# Altium schematic symbol library MyLibrary.SchLib: 320 symbols (part 6 of 7)
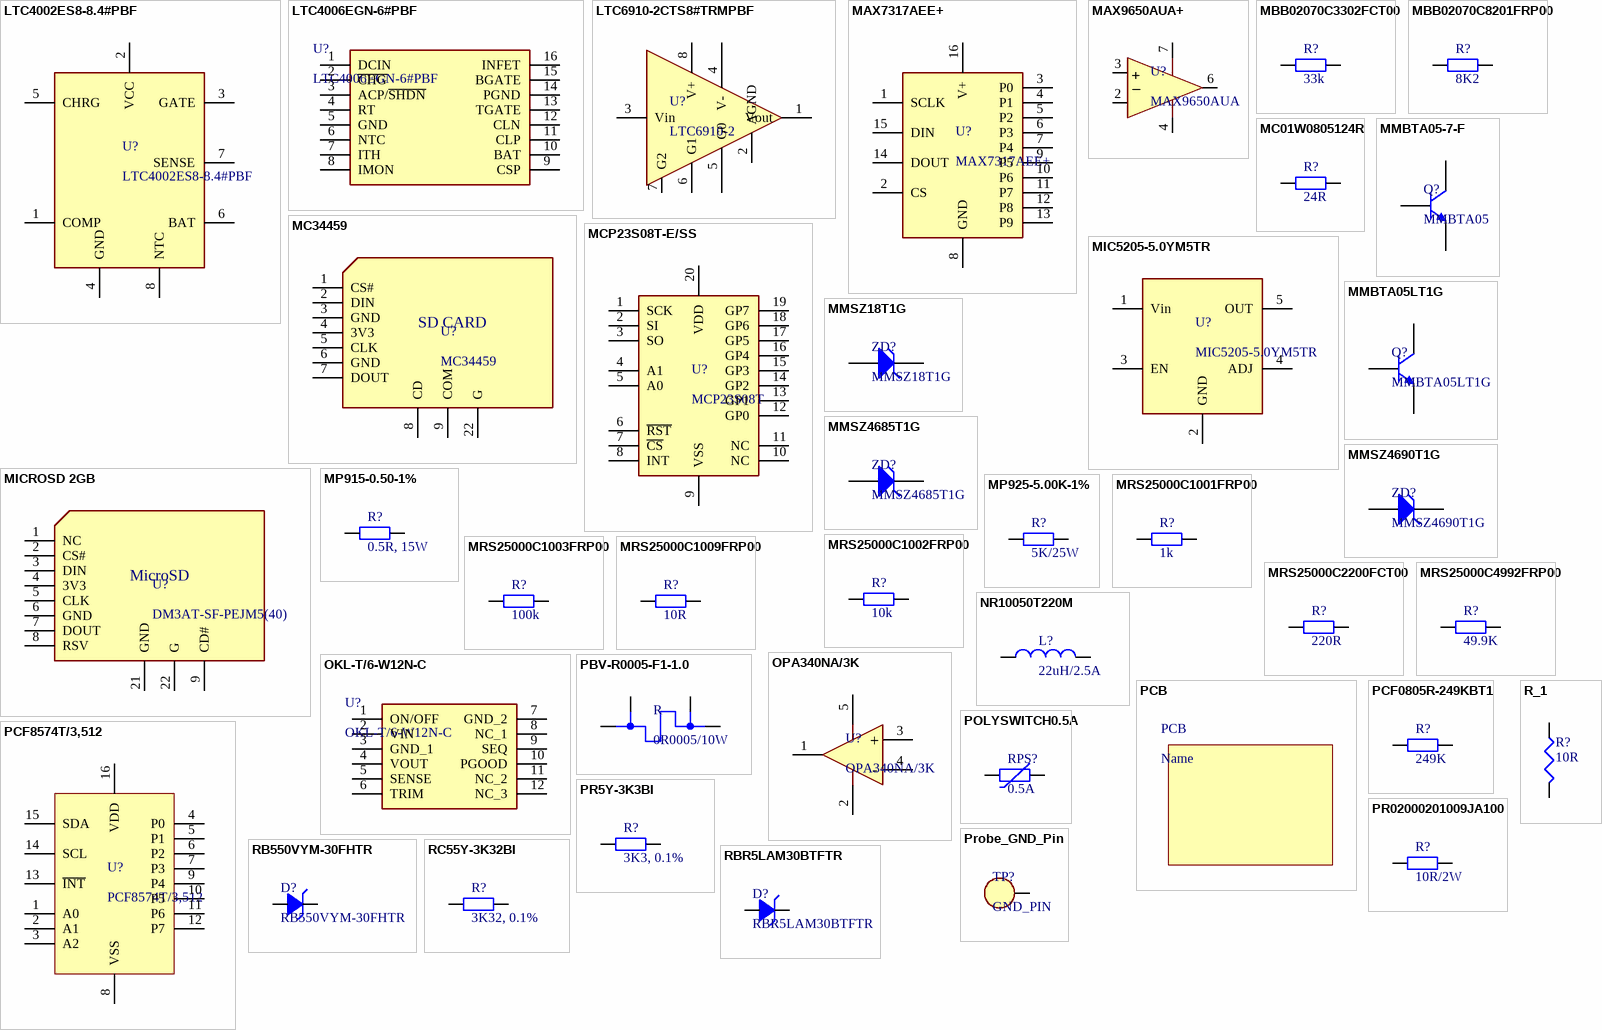
[diagram p13: symbols LTC4002ES8-8.4#PBF to RC55Y-3K32BI]

## MMSZ4685T1G
designator ZD?
ZENER 3.6V 500MW SOD123; Manufacturer: ON Semiconductor; Tolerance: 5%; Max Reverse Leakage Current: 7.5uA; Test Current: 50uA; Element Configuration: Single; Forward Voltage: 900mV; Voltage Tolerance: 3%; Breakdown Voltage: 3.78V; Supplier 1: Future Electronics; Manufacturer Part Number: MMSZ4685T1G; Stock 1: 19723; Pricing 1: 1=0.23, 10=0.192, 100=0.1016, 500=0.0668, 1000=0.0454 (USD); Case/Package: SOD-123-2; Number of Pins: 2; Material: Plastic; Min Operating Temperature: -55°C; Max Operating Temperature: 150°C; Packaging: Tape and Reel; Max Power Dissipation: 500mW; Package Quantity: 1; Zener Voltage: 3.6V; Zener Current: 50uA; Power Dissipation: 500mW; Working Voltage: 3.6V; Peak Reverse Current: 50uA; Termination: SMD/SMT; Voltage Rating (DC): 3.6V; Power Rating: 500mW; Length: 2.84mm; Height: 1.25mm; Width: 1.8mm; Radiation Hardening: No; Lead Free: Lead Free; REACH SVHC: No SVHC; ComponentLink1URL: https://datasheet.ciiva.com/30478/0900766b81276af1-30478634.pdf; ComponentLink1Description: Datasheet; Supplier Part Number 1: MMSZ4685T1G; Type: SMD; Package: SOD3716X135N
footprint SOD123 (SODFL, 2-Leads, Body 1,50x5,20mm, IPC Medium Density)
pins: A, C

## MMSZ4690T1G
designator ZD?
ZENER 5.6V 500MW SOD123; Manufacturer: ON Semiconductor; Tolerance: 5%; Max Reverse Leakage Current: 10uA; Element Configuration: Single; Forward Voltage: 900mV; Forward Current: 10mA; Zener Current: 50uA; Breakdown Voltage: 5.88V; ESD Protection: Yes; Supplier 1: Elfa; Manufacturer Part Number: MMSZ4690T1G; Stock 1: 1803; Pricing 1: 1=0.23, 10=0.192, 100=0.1016, 500=0.0668, 1000=0.0454 (USD); Case/Package: SOD-123-2; Number of Pins: 2; Material: Plastic; Contact Plating: Tin,Matte; Min Operating Temperature: -55°C; Max Operating Temperature: 150°C; Max Power Dissipation: 500mW; Packaging: Tape and Reel; Zener Voltage: 5.6V; Package Quantity: 1; Voltage Tolerance: 5%; Power Dissipation: 500mW; Test Current: 50uA; Working Voltage: 5.6V; Peak Reverse Current: 50uA; Voltage Rating (DC): 5.6V; Power Rating: 500mW; Length: 2.84mm; Height: 1.35mm; Width: 1.8mm; Radiation Hardening: No; Lead Free: Lead Free; REACH SVHC: No SVHC; ComponentLink1URL: https://datasheet.ciiva.com/894/mmsz4678t1-d-894880.pdf; ComponentLink1Description: Datasheet; Supplier Part Number 1: 300-50-434; Type: SMD; Package: SOD3716X135N
footprint SOD123 (SODFL, 2-Leads, Body 1,50x5,20mm, IPC Medium Density)
pins: A, C

## MP915-0.50-1%
designator R?, comment 0.5R, 15W
RES 0.5 OHM 15W 1% TO126; Manufacturer: Caddock; Manufacturer Part Number: MP915-0.50-1%; Resistance: 500mR; Voltage Rating: 200V; Temperature Coefficient: 80ppm/°C; Lead Diameter: 0.64mm; Lead Length: 11.4mm; Supplier 1: RSComponents; Stock 1: 0; Package: TO-126; Min Operating Temperature: -55°C; Max Operating Temperature: 150°C; Packaging: Rail/Tube; Package Quantity: 50; Power Rating: 15W; Tolerance: 1%; Composition: Thick Film; Voltage Rating (DC): 200V; Number of Terminations: 2; Termination: Radial; Max Power Dissipation: 15W; Features: Moisture Resistant; Length: 8.12mm; Height: 0.45inch; Width: 0.11inch; Lead Pitch: 5.08mm; Depth: 2.79mm; Thickness: 0.01inch; REACH SVHC: No SVHC; Lead Free: Lead Free; ComponentLink3URL: http://www.mouser.com/ds/2/62/MP9000_Series-1052.pdf; ComponentLink3Description: Datasheet; Supplier Part Number 1: 320-4700; Type: THT
footprint TO126
pins: 1, 2

## MP925-5.00K-1%
designator R?, comment 5K/25W
RES 5K OHM 25W 1% TO220; Manufacturer: Caddock; Manufacturer Part Number: MP925; Type: THT; Supplier 1: RS Components; Supplier Part Number 1: 377-8289; Operating Temperature: -55°C ~ 155°C; Package: TO-220; Power (Watts): 25W; Resistance (Ohms): 5k; Resistance Tolerance: ± 1%
footprint TO220AB-2
pins: 1, 2

## MRS25000C1001FRP00
designator R?, comment 1k
RES 1K 0.6W 1% AXIAL; Manufacturer: Vishay BC Components; Manufacturer Part Number: MRS25000C1001FRP00; Temperature Coefficient: ±50ppm/°C; Supplier 1: Elfa; RoHS: RoHS Compliant; Category: Resistors; Stock 1: 5232; Pricing 1: 1=0.29, 10=0.242, 25=0.176, 50=0.1276, 100=0.0946, 250=0.0726, 500=0.0572, 1000=0.0396 (USD); Packaging: Cut Tape (CT); Part Status: Active; Resistance (Ohms): 1k; Tolerance: ±1%; Power (Watts): 0.6W; Composition: Metal Film; Features: -; Operating Temperature: -55°C ~ 155°C; Package: Axial; Supplier Device Package: -; Size / Dimension: 0.098" Dia x 0.256" L (2.50mm x 6.50mm); Height - Seated (Max): -; Failure Rate: -; ComponentLink1URL: http://www.vishay.com/docs/28724/mrs16m25.pdf; ComponentLink1Description: Datasheet; Supplier Part Number 1: 60-722-84; Type: THT
footprint RESAD1020W60L680D127B
pins: 1, 2

## MRS25000C1002FRP00
designator R?, comment 10k
RES 10K 0.6W 1% AXIAL; Manufacturer: Vishay BC Components; Manufacturer Part Number: MRS25000C1002FRP00; Temperature Coefficient: ±50ppm/°C; Supplier 1: Elfa; RoHS: RoHS Compliant; Category: Resistors; Stock 1: 16255; Pricing 1: 1=0.29, 10=0.242, 25=0.176, 50=0.1276, 100=0.0946, 250=0.0726, 500=0.0572, 1000=0.0396 (USD); Packaging: Cut Tape (CT); Part Status: Active; Resistance (Ohms): 10k; Tolerance: ±1%; Power (Watts): 0.6W; Composition: Metal Film; Features: -; Operating Temperature: -55°C ~ 155°C; Package: Axial; Supplier Device Package: -; Size / Dimension: 0.098" Dia x 0.256" L (2.50mm x 6.50mm); Height - Seated (Max): -; Failure Rate: -; ComponentLink1URL: http://www.vishay.com/docs/28724/mrs16m25.pdf; ComponentLink1Description: Datasheet; Supplier Part Number 1: 160-73-423; Type: THT
footprint RESAD1020W60L680D127B
pins: 1, 2

## MRS25000C1003FRP00
designator R?, comment 100k
RES 100K AXIAL 0.6W 1%; Manufacturer: Vishay BC Components; Manufacturer Part Number: MRS25000C1003FRP00; Temperature Coefficient: ±50ppm/°C; Supplier 1: Elfa; RoHS: RoHS Compliant; Category: Resistors; Stock 1: 9518; Pricing 1: 1=0.29, 10=0.242, 25=0.176, 50=0.1276, 100=0.0946, 250=0.0726, 500=0.0572, 1000=0.0396 (USD); Packaging: Cut Tape (CT); Part Status: Active; Resistance (Ohms): 100k; Tolerance: ±1%; Power (Watts): 0.6W; Composition: Metal Film; Features: -; Operating Temperature: -55°C ~ 155°C; Package: Axial; Supplier Device Package: -; Size / Dimension: 0.098" Dia x 0.256" L (2.50mm x 6.50mm); Height - Seated (Max): -; Failure Rate: -; ComponentLink1URL: http://www.vishay.com/docs/28724/mrs16m25.pdf; ComponentLink1Description: Datasheet; Supplier Part Number 1: 160-74-561; Type: THT
footprint RESAD1020W60L680D127B
pins: 1, 2

## MRS25000C1009FRP00
designator R?, comment 10R
RES 10R 0.6W 1% AXIAL; Manufacturer: Vishay BC Components; Manufacturer Part Number: MRS25000C1009FRP00; Resistance (Ohms): 10; Temperature Coefficient: ±50ppm/°C; Supplier 1: Elfa; RoHS: RoHS Compliant; Category: Resistors; Stock 1: 12795; Pricing 1: 1=0.29, 10=0.242, 25=0.176, 50=0.1276, 100=0.0946, 250=0.0726, 500=0.0572, 1000=0.0396 (USD); Packaging: Cut Tape (CT); Part Status: Active; Tolerance: ±1%; Power (Watts): 0.6W; Composition: Metal Film; Features: -; Operating Temperature: -55°C ~ 155°C; Package: Axial; Supplier Device Package: -; Size / Dimension: 0.098" Dia x 0.256" L (2.50mm x 6.50mm); Height - Seated (Max): -; Failure Rate: -; ComponentLink1URL: http://www.vishay.com/docs/28724/mrs16m25.pdf; ComponentLink1Description: Datasheet; Supplier Part Number 1: 60-700-07; Type: THT
footprint RESAD1020W60L680D127B
pins: 1, 2

## MRS25000C2200FCT00
designator R?, comment 220R
RES 220R 0.6W 1% AXIAL; Manufacturer: Vishay BC Components; Manufacturer Part Number: MRS25000C2200FCT00; Resistance (Ohms): 220; Temperature Coefficient: ±50ppm/°C; Supplier 1: Elfa; RoHS: RoHS Compliant; Category: Resistors; Stock 1: 0; Pricing 1: 1=0.29, 10=0.242, 25=0.176, 50=0.1276, 100=0.0946, 250=0.0726, 500=0.0572, 1000=0.0396 (USD); Packaging: Cut Tape (CT); Part Status: Active; Tolerance: ±1%; Power (Watts): 0.6W; Composition: Metal Film; Features: -; Operating Temperature: -55°C ~ 155°C; Package: Axial; Supplier Device Package: -; Size / Dimension: 0.098" Dia x 0.256" L (2.50mm x 6.50mm); Height - Seated (Max): -; Failure Rate: -; ComponentLink1URL: http://www.vishay.com/docs/28724/mrs16m25.pdf; ComponentLink1Description: Datasheet; Supplier Part Number 1: 60-715-00; Type: THT
footprint RESAD1020W60L680D127B
pins: 1, 2

## MRS25000C4992FRP00
designator R?, comment 49.9K
RES 49.9K 0.6W 1% AXIAL; Manufacturer: Vishay / BC components; Manufacturer Part Number: MRS25000C4992FRP00; Catalog Drawings: MRS25 Type 1%; EDA / CAD Models: Download from Accelerated Designs; Temperature Coefficient: ±50ppm/°C; Online Catalog: MRS25 Series; Other Names: 2322 156 34993 232215634993 5053MC49K90F12AF5 MRS25F-49.9K MRS25F-49.9K-ND PPC49.9KZTR Q1185954; Stock 1: 8815; Pricing 1: 1=0.29, 10=0.242, 25=0.176, 50=0.1276, 100=0.0946, 250=0.0726, 500=0.0572, 1000=0.0396 (USD); Standard Package: 5,000; Category: Resistors; Family: Through Hole Resistors; Series: MRS25; Packaging: Tape & Reel (TR); Resistance (Ohms): 49.9k; Tolerance: ±1%; Power (Watts): 0.6W; Composition: Metal Film; Features: -; Operating Temperature: -55°C ~ 155°C; Package: Axial; Supplier Device Package: Axial; Size / Dimension: 0.098" Dia x 0.256" L (2.50mm x 6.50mm); Height: -; Number of Terminations: 2; ComponentLink1URL: https://datasheet.ciiva.com/2710/mrs16m25-2710953.pdf; ComponentLink1Description: Datasheet; Supplier 1: Elfa; Supplier Part Number 1: 60-742-15; Type: THT
footprint RESAD1020W60L680D127B
pins: 1, 2

## NR10050T220M
designator L?, comment 22uH/2.5A
IND 22UH 2.5A 58.5 MOHM; Manufacturer: Taiyo Yuden; Manufacturer Part Number: NR10050T220M; Core Material: Ferrite; Self Resonant Frequency: 10MHz; Shielding: Shielded; Tolerance: 20%; Saturation Current: 2.6A; DC Resistance (DCR): 58.5mR; Test Frequency: 100kHz; Type: SMD; Supplier 1: Mouser; RoHS: Yes; Stock 1: 2293; Pricing 1: 1 = 0.89000, 10 = 0.67700, 50 = 0.67700, 100 = 0.57900, 1000 = 0.37400, 10000 = 0.33000 (USD); Mount: Surface Mount; Case/Package: Nonstandard; Number of Pins: 2; Min Operating Temperature: -25°C; Max Operating Temperature: 105°C; Packaging: Tape and Reel; Current Rating: 2.5A; Inductance: 22uH; Inductance Tolerance: 20%; Package Quantity: 500; Max DC Current: 2.6A; Termination: SMD/SMT; Composition: Wirewound; RMS Current (Irms): 2.5A; Length: 0.394inch; Height: 5mm; Width: 9.8mm; Height - Seated (Max): 0.197inch; Depth: 10.3mm; Radiation Hardening: No; Lead Free: Lead Free; Halogen Free: Halogen Free; REACH SVHC: Unknown; ComponentLink1URL: https://datasheet.ciiva.com/8500/nr10050t220m-ss-8500388.pdf?src-supplier=Avnet; ComponentLink1Description: Datasheet; Supplier Part Number 1: 963-NR10050T220M; Package: INDP100100X50N
footprint IND_NR10050
pins: 1, 2

## OKL-T/6-W12N-C
designator U?
DC/DC CONVERTER 0.591-5.5V 30W; Manufacturer: Murata; Nominal Output Voltage: 5.5V; Max Output Current: 6A; Min Input Voltage: 4.5V; Max Input Voltage: 14V; Number of Outputs: 1; Nominal Input Voltage: 12V; Efficiency: 93%; Isolation: Non-Isolated; Min Output Voltage: 591mV; Supplier 1: Mouser; Manufacturer Part Number: OKL-T/6-W12N-C; RoHS: Yes; Stock 1: 785; Pricing 1: 1 = 7.50000, 5 = 7.44000, 10 = 7.38000, 25 = 7.27000, 50 = 7.05000, 100 = 7.05000, 1000 = 7.05000, 10000 = 7.05000 (USD); Mount: Surface Mount; Case/Package: LGA; Number of Pins: 12; Min Operating Temperature: -40°C; Max Operating Temperature: 85°C; Output Current: 6A; Output Voltage: 5.5V; Output Power: 30W; Min Input Voltage (DC): 4.5V; Max Input Voltage (DC): 14V; Packaging: Tape and Reel; Package Quantity: 1; Voltage - Output 1: 5.5V; Current - Output 1: 6A; Max Output Power: 30W; Max Power Dissipation: 30W; Features: UVLO; Power Rating: 30W; Operating Supply Voltage: 12V; Max Output Voltage: 5.5V; Length: 0.48inch; Height: 7.2mm; Width: 12.19mm; Depth: 12.19mm; REACH SVHC: No SVHC; Lead Free: Lead Free; ComponentLink1URL: https://datasheet.ciiva.com/7171/1760834-7171003.pdf?src-supplier=Newark; ComponentLink1Description: Datasheet; Supplier Part Number 1: 580-OKL-T/6-W12N-C; Type: SMD
footprint OKL-T/3-W5
pins: 1 ON/OFF, 2 VIN, 3 GND_1, 4 VOUT, 5 SENSE, 6 TRIM, 7 GND_2, 8 NC_1, 9 SEQ, 10 PGOOD, 11 NC_2, 12 NC_3

## OPA340NA/3K
designator U?
OP AMP GP 5.5MHZ RRIO SOT23-5; Manufacturer: Texas Instruments; Max Supply Voltage: 5.5V; Min Supply Voltage: 2.5V; Voltage Gain: 124dB; Nominal Supply Current: 950uA; Common Mode Rejection Ratio: 80dB; Number of Channels: 1; Slew Rate: 6V/µs; Max I/O Voltage: 500uV; Input Bias Current: 10pA; Power Supply Rejection Ratio (PSRR): 90.46dB; Operating Supply Current: 750uA; Output Current per Channel: 50mA; Supplier 1: Farnell; Manufacturer Part Number: OPA340NA/3K; Stock 1: 1118; Pricing 1: 1=2.25, 25=1.76, 50=1.59, 100=1.42, 250=1.33, 500=1.24, 1000=1.03, 2500=0.921 (EUR); Case/Package: SOT-23; Number of Pins: 5; Min Operating Temperature: -40°C; Max Operating Temperature: 85°C; Package Quantity: 3000; Unity Gain Bandwidth Product: 5.5MHz; Packaging: Tape and Reel; Bandwidth: 5.5MHz; Input Offset Voltage (Vos): 500uV; Gain Bandwidth Product: 5.5MHz; Number of Circuits: 1; Number of Elements: 1; Number of Amplifiers: 1; Radiation Hardening: No; REACH SVHC: No SVHC; Lead Free: Lead Free; ComponentLink1URL: https://datasheet.ciiva.com/27052/1488520-27052284.pdf; ComponentLink1Description: Datasheet; Supplier Part Number 1: 1234805; Type: SMD; Package: STO95P300X130N
footprint SOT23-5 (SOT23, 5-Leads, Body 2.90x2.80mm, Pitch 0.95mm, IPC Medium Density)
pins: 1 Vout, 2 V-, 3 In+, 4 In-, 5 V+
text: +; -

## PBV-R0005-F1-1.0
designator R, comment 0R0005/10W
RES PWR 0.0005R 1%; Manufacturer: Isabellenhütte; Manufacturer Part Number: PBV-R0005-F1-1.0; Test Voltage: 5kV; Temperature Coefficient: 30ppm/°C; Supplier 1: Distrelec; RoHS: Yes; Stock 1: 349; Pricing 1: 1 = 10.41000, 3 = 9.23000, 10 = 8.03000, 25 = 7.27000, 100 = 6.98000 (EUR); Tolerance: 1%; Composition: Power resistor; ComponentLink1URL: https://www.distrelec.biz/Web/Downloads/_t/ds/PBV_ger-eng_tds.pdf?mime=application%2Fpdf&src-supplier=Distrelec; ComponentLink1Description: Datasheet; Supplier Part Number 1: 16057540; Type: THT; Package: PBV
footprint PBV
pins: I1, I2, U1, U2

## PCB
designator PCB, comment Name  (no BOM)
PCB; Category: Materials

## PCF0805R-249KBT1
designator R?, comment 249K
RES 249K 0805 0.1W 0.1%; Manufacturer: TT Welwyn; Manufacturer Part Number: PCF0805R-249KBT1; Resistance: 249kR; Power Rating: 100mW; Voltage Rating: 100V; Temperature Coefficient: 25ppm/°C; Supplier 1: Mouser; RoHS: Yes; Stock 1: 4461; Pricing 1: 1 = 0.35000, 10 = 0.35000, 50 = 0.26600, 100 = 0.16700, 500 = 0.14300, 1000 = 0.10000, 2000 = 0.09300, 5000 = 0.08300, 10000 = 0.08200, 25000 = 0.07700 (USD); Mount: Surface Mount; Case/Package: 0805; Number of Pins: 2; Case Code (Imperial): 0805; Case Code (Metric): 2012; Min Operating Temperature: -55°C; Max Operating Temperature: 125°C; Tolerance: 0.1%; Packaging: Tape and Reel; Package Quantity: 1000; Termination: SMD/SMT; Composition: Metal Film; Number of Terminations: 2; Military Standard: Not; Max Power Dissipation: 100mW; Voltage Rating (DC): 100V; Length: 2mm; Height: 0.026inch; Width: 1.25mm; Depth: 1.25mm; REACH SVHC: No SVHC; ComponentLink1URL: https://datasheet.ciiva.com/26864/getdatasheetpartid-416298-26864201.pdf?src-supplier=Verical; ComponentLink1Description: Datasheet; Supplier Part Number 1: 756-PCF0805R-249KBT1; Type: SMD; Package: RESC2012X60N
footprint R0805
footprint RESC2012X05N (Chip Resistor, 2-Leads, Body 2.05x1.25mm, IPC Medium Density)
pins: 1, 2

## PCF8574T/3,512
designator U?
IC I/O Expander 8bit 100 kHz I2C; Manufacturer: NXP Semiconductors; Min Supply Voltage: 2.5V; Max Supply Voltage: 6V; Nominal Supply Current: 100mA; Number of I/Os: 8; Frequency: 100kHz; Supplier 1: Future Electronics; Manufacturer Part Number: PCF8574T/3,512; Stock 1: 2649; Pricing 1: 1=0.62500, 50=0.58000, 200=0.56500, 500=0.56000, 2000=0.54500 (USD); RoHS: Yes; Mount: Surface Mount; Case/Package: SOIC; Number of Pins: 16; Min Operating Temperature: -40°C; Max Operating Temperature: 85°C; Packaging: Rail/Tube; Interface: I2C; Max Frequency: 100kHz; Length: 10.5mm; Height: 2.45mm; Width: 7.6mm; REACH SVHC: No SVHC; Lead Free: Lead Free; ComponentLink1URL: https://datasheet.ciiva.com/1600/1716973-1600784.pdf?src-supplier=Newark; ComponentLink1Description: Datasheet; Supplier Part Number 1: PCF8574T/3,512-TUBE; Package: SOIC127P1032X265-16N; Type: SMD
footprint SOIC16W (SOIC, 16-Leads, Body 10,30x7,50mm, Pitch 1,27mm, IPC Medium Density)
pins: 1 A0, 2 A1, 3 A2, 4 P0, 5 P1, 6 P2, 7 P3, 8 VSS, 9 P4, 10 P5, 11 P6, 12 P7, 13 ~{INT}, 14 SCL, 15 SDA, 16 VDD

## POLYSWITCH0.5A
designator RPS?, comment 0.5A
POLYSWITCH 0.5A 1812; Manufacturer: BOURNS; Manufacturer Part Number: MF-MSMF050-2; .PCBChecked: BP; Supplier 1: Farnell; RoHS: YES; Stock 1: 28296; Pricing 1: 5=0.219, 50=0.185, 250=0.142, 500=0.118, 1000=0.117, 2000=0.116, 10000=0.115, 20000=0.114 (GBP); ComponentLink1URL: http://www.bourns.com/engineering/MFMSMF/mf-msmf050.stp; ComponentLink1Description: Datasheet; Supplier Part Number 1: 9350314RL; .SCHChecked: BP; Type: SMD; Package: RPSC4532X85N
footprint RPS1812
pins: 1, 2

## PR5Y-3K3BI
designator R?, comment 3K3, 0.1%
RES 3K3 0.5W THT 0.1%; Manufacturer: TT Welwyn; Manufacturer Part Number: PR5Y-3K3BI; Voltage Rating: 350V; Power Rating: 500mW; Resistance: 3.3kR; Temperature Coefficient: 15ppm/°C; Lead Length: 19.6mm; Supplier 1: Farnell; Stock 1: 0; Tolerance: 0.1%; Voltage Rating (DC): 350V; Composition: Metal Film; Length: 9mm; REACH SVHC: No SVHC; ComponentLink1URL: https://datasheet.ciiva.com/7879/66234-7879829.pdf; ComponentLink1Description: Datasheet; Supplier Part Number 1: 1634062; Type: THT; Package: Axial
footprint RESAD1020W60L680D127B
pins: 1, 2

## PR02000201009JA100
designator R?, comment 10R/2W
RES 10R 2W THT 5%; Manufacturer: Vishay; Manufacturer Part Number: PR02000201009JA100; Resistance: 10Ohm; Temperature Coefficient: ±250; Case Style: Conformal; Lead Spacing (nom): Not Requiredmm; Product Length (mm): 12mm; Supplier 1: RSComponents; Stock 1: 2460; Pricing 1: 10=0.136, 250=0.13, 1000=0.09, 2500=0.088, 5000=0.081 (EUR); Type: THT; Power Rating(s): 2W; Tolerance (+ or -): 5%; Package: Axial; Packaging: Ammo; Operating Temp Range: -55C to 155C; Military Standard: Not Required; Failure Rate: Not Required; Product Depth (mm): Not Requiredmm; Product Height (mm): Not Requiredmm; Construction: Cylindrical; ComponentLink1URL: https://datasheet.ciiva.com/11825/0900766b80d9a182-11825394.pdf; ComponentLink1Description: Datasheet; Supplier Part Number 1: 683-5641P
footprint RESAD1502W80L1100D400B
pins: 1, 2

## Probe_GND_Pin
designator TP?, comment GND_PIN
PROBE PIN GND THT SINGLE LADDER
footprint CONN1_LADDER
pins: 1

## R_1
designator R?, comment 10R
THT; Type: THT
pins: 1, 2

## RB550VYM-30FHTR
designator D?
DIODE SCHOTTKY 30V 1A; Manufacturer: Rohm; Forward Voltage: 520mV; Max Forward Surge Current (Ifsm): 3A; Element Configuration: Single; Type: SMD; Supplier 1: Mouser; Manufacturer Part Number: RB550VYM-30FHTR; RoHS: No; Stock 1: 1414; Pricing 1: 1 = 0.41000, 10 = 0.28400, 50 = 0.28400, 100 = 0.13100, 1000 = 0.10000, 3000 = 0.08600, 10000 = 0.08600 (USD); Number of Pins: 2; Max Operating Temperature: 150°C; Max Repetitive Reverse Voltage (Vrrm): 30V; Forward Current: 1A; Packaging: Cut Tape; REACH SVHC: No SVHC; ComponentLink1URL: http://www.farnell.com/datasheets/2067166.pdf?src-supplier=Element14; ComponentLink1Description: Datasheet; Supplier Part Number 1: 755-RB550VYM-30FHTR; Package: DIODE_TUMD2M
footprint TUMD2M
pins: A, C

## RBR5LAM30BTFTR
designator D?
DIODE SCHOTTKY 30V 5A; Manufacturer: Rohm; Forward Surge Current: 100 A; Reverse Current: 150 uA; Brand: ROHM Semiconductor; Type: SMD; Supplier 1: Mouser; Manufacturer Part Number: RBR5LAM30BTFTR; RoHS: No; Stock 1: 12935; Pricing 1: 1 = 0.55000, 10 = 0.45500, 50 = 0.45500, 100 = 0.27800, 1000 = 0.21500, 3000 = 0.18300, 10000 = 0.18300 (USD); Supplier Part Number 1: 755-RBR5LAM30BTFTR; Mounting Style: SMD/SMT; Package/Case: SOD-128-2; Forward Current: 5 A; Repetitive Reverse Voltage: 30 V; Product Type: Schottky Diodes & Rectifiers; Reverse Voltage: 30 V; ComponentLink1Description: Datasheet; ComponentLink1URL: https://eu.mouser.com/datasheet/2/348/rbr5lam30btftr-e-1507947.pdf; Package: SODFL470X105
footprint SOD128 (SODFL, 2-Leads, Body 2.50x4.71mm, IPC Medium Density)
pins: A, C

## RC55Y-3K32BI
designator R?, comment 3K32, 0.1%
RES 3K32 0.25W 0.1% AXIAL; Manufacturer: TT Welwyn; Manufacturer Part Number: RC55Y-3K32BI; Resistance: 3.32kR; Power Rating: 250mW; Voltage Rating: 350V; Temperature Coefficient: 15ppm/°C; Lead Diameter: 0.6mm; Lead Length: 30mm; Supplier 1: Farnell; Stock 1: 408; Pricing 1: 1=1.89, 10=1.24, 50=1.01, 100=0.857, 200=0.754, 500=0.527, 2500=0.505 (EUR); Case/Package: Axial; Number of Pins: 2; Weight: 0.008466oz; Min Operating Temperature: -55°C; Max Operating Temperature: 155°C; Tolerance: 0.1%; Composition: Metal Film; Voltage Rating (DC): 350V; Package Quantity: 1; Packaging: Tape and Reel; Number of Terminations: 2; Termination: Axial; Military Standard: Not; Max Power Dissipation: 250mW; Diameter: 2.5mm; Length: 7.2mm; Height: 0.6mm; REACH SVHC: No SVHC; ComponentLink1URL: https://datasheet.ciiva.com/11825/0900766b80099677-11825053.pdf; ComponentLink1Description: Datasheet; Supplier Part Number 1: 9501924; Package: Axial
footprint RESAD1020W60L680D127B
pins: 1, 2

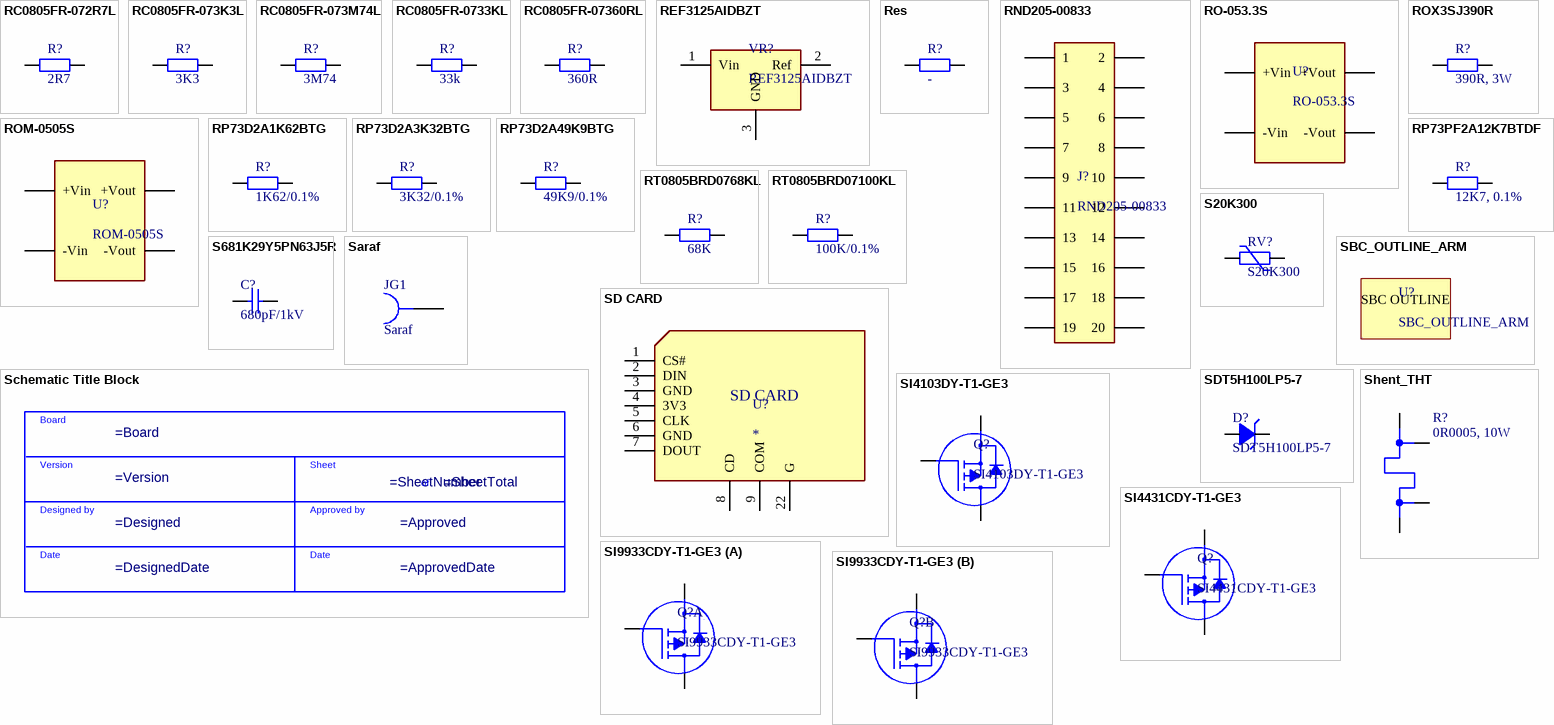
[diagram p7: symbols RC0805FR-072R7L to SI9933CDY-T1-GE3]

## RC0805FR-072R7L
designator R?, comment 2R7
RES 2R7 0805 0.125W; Manufacturer: YAGEO (PHYCOMP); Manufacturer Part Number: RC0805FR-072R7L; Resistance: 2.7; Voltage Rating: 150; Resistor Case Style: 0805 [2012 Metric]; Power Rating: 125; Resistance Tolerance: ± 1%; Product Range: RC Series; Resistor Element Material: Thick Film; Temperature Coefficient: ± 200; SVHC: No SVHC (20-Jun-2016); External Depth: 0.55; External Length / Height: 2; External Width: 1.25; Full Power Rating Temperature: 70; Reel Quantity: 5000; Resistor Mounting: Surface Mount Device; Temperature Coeff. +: 200; Tolerance +: 1%; Voltage Rating V DC: 150V<!--FANDB--><div class="features-and-benefits-container"><div class="features-and-benefits-description"><span class="features-benefits-value">The Yageo RC_L series resistors are general purpose thick film chip resistors with lead free terminations made by thick film process. The resistance range includes E24 and E96 decade values from 1ohm to 100Mohm. These resistors are constructed on top of a high grade ceramic body.</span></div><div class="features-and-benefits-list"><ul class="features-and-benefits-list-list"><li class="features-and-benefits-list-item">EIA 0075, 0100, 0201, 0402, 0603, 0805, 1206, 1210, 1218, 2010, 2512 case sizes available</li><li class="features-and-benefits-list-item">Small chip sizes save PCB space</li><li class="features-and-benefits-list-item">Rated voltage range of 10V to 200V</li><li class="features-and-benefits-list-item">Maximum power rating of 2W</li><li class="features-and-benefits-list-item">Available in ±0.1%, ±0.5%, ±1% and ±5% tolerance</li><li class="features-and-benefits-list-item">High component and equipment reliability</li><li class="features-and-benefits-list-item">Forbidden materials are not used in products/production</li><li class="features-and-benefits-list-item">-55°C to 155°C temperature range for RC0402 to RC2512 and -55°C to 125°C for RC0075 to RC0201; .PCBChecked: BP; Supplier 1: Farnell; RoHS: YES; Stock 1: 15843; Pricing 1: 10=0.0224, 100=0.0135, 500=0.0095, 1000=0.0079, 2500=0.0059 (GBP); Packaging: Cut Tape; Automotive Qualification Standard: -; MSL: MSL 1 - Unlimited; No. of Pins: 2; Operating Temperature Max: 155; Operating Temperature Min: -55; Operating Temperature Range: -55°C to +155; Temperature Coeff. -: 200; Tolerance -: 1%; ComponentLink1URL: http://www.farnell.com/datasheets/444164.pdf; ComponentLink1Description: Datasheet; Supplier Part Number 1: 9237178RL; Category: Resistors; Package: RESC2012X60N; Type: SMD; .SCHChecked: BP
footprint R0805
footprint RESC2012X05N (Chip Resistor, 2-Leads, Body 2.05x1.25mm, IPC Medium Density)
pins: 1, 2

## RC0805FR-073K3L
designator R?, comment 3K3
RES 3K3 0805 0.125W; Manufacturer: Yageo; Manufacturer Part Number: RC0805FR-073K3L; Tolerance: 1%; Resistance: 3.3kR; Temperature Coefficient: 100ppm/°C; Power Rating: 125mW; Voltage Rating: 150V; Supplier 1: Future Electronics; Stock 1: 0; Package: RESC2012X60N; Weight: 0.000194oz; Case Code (Metric): 2012; Case Code (Imperial): 0805; Min Operating Temperature: -55°C; Max Operating Temperature: 155°C; Packaging: Tape and Reel; Composition: Thick Film; Package Quantity: 1; Number of Terminations: 2; Termination: SMD/SMT; Max Power Dissipation: 125mW; Features: Moisture Resistant; Length: 2mm; Height: 0.5mm; Width: 0.049inch; Depth: 1.25mm; REACH SVHC: No SVHC; Lead Free: Lead Free; ComponentLink2URL: http://www.farnell.com/datasheets/444164.pdf; ComponentLink2Description: Datasheet; Supplier Part Number 1: 3186582; Type: SMD
footprint R0805
footprint RESC2012X05N (Chip Resistor, 2-Leads, Body 2.05x1.25mm, IPC Medium Density)
pins: 1, 2

## RC0805FR-073M74L
designator R?, comment 3M74
RES 3M74 0805 0.125W 1%; Manufacturer: Yageo; Manufacturer Part Number: RC0805FR-073M74L; Resistance: 3.74MR; Power Rating: 125mW; Voltage Rating: 150V; Temperature Coefficient: 100ppm/°C; Supplier 1: Mouser; RoHS: Yes; Case/Package: 0805; Case Code (Metric): 2012; Case Code (Imperial): 0805; Contact Plating: Tin; Min Operating Temperature: -55°C; Max Operating Temperature: 155°C; Tolerance: 1%; Package Quantity: 5000; Packaging: Tape and Reel; Composition: Thick Film; Number of Terminations: 2; Termination: SMD/SMT; Max Power Dissipation: 125mW; Voltage Rating (DC): 150V; Length: 0.079inch; Height: 0.024inch; Width: 0.049inch; Radiation Hardening: No; Lead Free: Lead Free; ComponentLink1URL: https://datasheet.ciiva.com/2520/pyu-r-int-thick-7-2520662.pdf?src-supplier=Digi-Key; ComponentLink1Description: Datasheet; Supplier Part Number 1: 603-RC0805FR-073M74L; Type: SMD; Package: RESC2012X60N
footprint R0805
footprint RESC2012X05N (Chip Resistor, 2-Leads, Body 2.05x1.25mm, IPC Medium Density)
pins: 1, 2

## RC0805FR-0733KL
designator R?, comment 33k
RES 33K 0805 0.125W; Manufacturer: Yageo; Manufacturer Part Number: RC0805FR-0733KL; Resistance: 33kR; Tolerance: 1%; Temperature Coefficient: 100ppm/°C; Power Rating: 125mW; Voltage Rating: 150V; Reverse Standoff Voltage: 15.3V; Min Breakdown Voltage: 17.1V; Clamping Voltage: 32.5V; Peak Pulse Current: 308A; Peak Pulse Power: 1.5kW; Polarity: Bidirectional; Test Current: 1mA; Direction: Unidirectional,Bidirectional; Number of Elements: 1; Max Breakdown Voltage: 18.9V; Max Reverse Leakage Current: 1uA; Element Configuration: Single; Power Line Protection: No; Voltage Rating (DC): 18V; Capacitance: 4.3nF; Supplier 1: Future Electronics; Stock 1: 365000; Pricing 1: 5000=0.0049, 10000=0.0045, 30000=0.0037, 75000=0.0028, 195000=0.0023 (USD); Case/Package: 0805; Case Code (Imperial): 0805; Case Code (Metric): 2012; Min Operating Temperature: -55°C; Max Operating Temperature: 155°C; Composition: Thick Film; Packaging: Tape and Reel; Package Quantity: 1; Termination: SMD/SMT; Number of Terminations: 2; Max Power Dissipation: 125mW; Length: 0.079inch; Height: 0.024inch; Width: 0.049inch; Depth: 1.25mm; REACH SVHC: Unknown; Lead Free: Lead Free; ComponentLink1URL: https://datasheet.ciiva.com/11819/0900766b8106beab-11819838.pdf; ComponentLink1Description: Datasheet; Supplier Part Number 1: 1593995; Type: SMD; Mount: Through Hole; Number of Pins: 2; Weight: 0.01lb; Breakdown Voltage: 17.1V; Reverse Breakdown Voltage: 17.1V; Max Surge Current: 1mA; Power Dissipation: 1.5kW; Leakage Current: 1uA; Operating Supply Voltage: 15.3V; Number of Bidirectional Channels: 1; Diameter: 5.3mm; Radiation Hardening: No; Package: RESC2012X60N
footprint R0805
footprint RESC2012X05N (Chip Resistor, 2-Leads, Body 2.05x1.25mm, IPC Medium Density)
pins: 1, 2

## RC0805FR-07360RL
designator R?, comment 360R
RES 360R 0805 0.125W 1%; Manufacturer: Yageo; Manufacturer Part Number: RC0805FR-07360RL; Power Rating: 125mW; Voltage Rating: 150V; Temperature Coefficient: 100ppm/°C; Supplier 1: Avnet; RoHS: Yes; Pricing 1: 5000 = 0.00208, 10000 = 0.00205, 20000 = 0.00200, 30000 = 0.00195, 50000 = 0.00190 (USD); Mount: Surface Mount; Case/Package: 0805; Case Code (Imperial): 0805; Case Code (Metric): 2012; Min Operating Temperature: -55°C; Max Operating Temperature: 155°C; Resistance: 360R; Tolerance: 1%; Packaging: Tape and Reel; Termination: SMD/SMT; Voltage Rating (DC): 150V; Length: 2mm; Height: 0.5mm; Depth: 1.25mm; Lead Free: Lead Free; ComponentLink1URL: https://datasheet.ciiva.com/11808/0900766b8106beab-11808261.pdf?src-supplier=RSComponents; ComponentLink1Description: Datasheet; Type: SMD; Package: RESC2012X60N; Supplier Part Number 1: RC0805FR-07360RL
footprint R0805
footprint RESC2012X05N (Chip Resistor, 2-Leads, Body 2.05x1.25mm, IPC Medium Density)
pins: 1, 2

## REF3125AIDBZT
designator VR?
VREF 2.5V SOT23-123; Manufacturer: Texas Instruments; Output Current: 10mA; Temperature Coefficient: 20ppm/°C; Quiescent Current: 100uA; Min Input Voltage: 2.55V; Max Input Voltage: 5.5V; Tolerance: 0.2%; Operating Supply Current: 135uA; Reference Type: Series,Fixed; Supplier 1: Digi-Key; Manufacturer Part Number: REF3125AIDBZT; Stock 1: 5110; Pricing 1: 1=2.73, 10=2.456, 100=2.0125 (USD); Case/Package: SOT-23; Number of Pins: 3; Weight: 0.050717oz; Min Operating Temperature: -40°C; Max Operating Temperature: 125°C; Packaging: Tape and Reel; Output Voltage: 2.5V; Package Quantity: 1; Min Output Voltage: 2.5V; Max Supply Current: 100uA; Reference Voltage: 2.5V; Max Output Voltage: 2.5V; Max Output Current: 10mA; Termination: SMD/SMT; Length: 2.92mm; Height: 1mm; Width: 1.3mm; Radiation Hardening: No; REACH SVHC: No SVHC; Lead Free: Lead Free; ComponentLink1URL: https://datasheet.ciiva.com/27052/1369168-27052113.pdf; ComponentLink1Description: Datasheet; Supplier Part Number 1: 296-17509-1-ND; Type: SMD; Package: SOT95P245X110-3N
footprint SOT23_123 (SOT23, 3-Leads, Body 2,92x2,51mm, Pitch 0,95mm, IPC Medium Density)
pins: 1 Vin, 2 Ref, 3 GND

## Res
designator R?, comment -
RES GENERAL PURPOSE; .PCBChecked: BP; Category: Resistors; Package: RESC2012X60N; Type: SMD; .SCHChecked: BP
footprint R0805
pins: 1, 2

## RND205-00833
designator J?
CONN2X10 IDC MALE; Manufacturer: RND Connect; Number of Contacts: 20; PCB Pitch: 2.54mm; Current Rating: 3A; ComponentLink1Description: Datasheet; ComponentLink1URL: https://www.elfa.se/Web/Downloads/_t/ds/RND%20205-00827_eng_tds.pdf; Gender: Male; Number of Rows: 2; Type: THT; Orientation: Vertical; Contact Material: Brass; Contact Plating: Gold Flash; Operating Temperature Min: -40C; Operating Temperature Max: 105C; Manufacturer Part Number: RND205-00833; Supplier 1: Elfa; Supplier Part Number 1: 301-12-335
footprint CONN2X10_MOLEX
pins: 1, 2, 3, 4, 5, 6, 7, 8, 9, 10, 11, 12, 13, 14, 15, 16, 17, 18, 19, 20

## RO-053.3S
designator U?
DC/DC 5V 3V3 SIP4 1W; Manufacturer: Recom; Min Input Voltage: 4.5V; Output Voltage: 3.3V; Output Current: 303mA; Number of Outputs: 1; Efficiency: 75%; Max Input Voltage: 5.5V; Isolation Voltage: 1kV; Isolation: Isolated; Supplier 1: Mouser; Manufacturer Part Number: RO-053.3S; Stock 1: 88; Pricing 1: 1=5.38, 10=5.22, 50=4.92, 100=4.76, 1000=4.15, 10000=4.15 (USD); Mount: Through Hole; Case/Package: SIP; Number of Pins: 4; Weight: 1.4g; Min Operating Temperature: -40°C; Max Operating Temperature: 85°C; Output Power: 1W; Max Output Current: 303mA; Packaging: Rail/Tube; Package Quantity: 42; Min Input Voltage (DC): 4.5V; Nominal Output Voltage: 3.3V; Nominal Input Voltage: 5V; Voltage - Output 1: 3.3V; Current - Output 1: 303mA; Max Input Voltage (DC): 5.5V; Max Output Power: 1W; Max Power Dissipation: 1W; Max Output Voltage: 3.3V; Features: SCP; Length: 11.5mm; Height: 10mm; Width: 6mm; Depth: 11.5mm; REACH SVHC: No SVHC; Lead Free: Lead Free; ComponentLink1URL: https://datasheet.ciiva.com/2170/ro-2170311.pdf; ComponentLink1Description: Datasheet; Supplier Part Number 1: 919-RO-053.3S; Type: THT; Package: SIP8
footprint SIP4
pins: +Vin, +Vout, -Vin, -Vout

## ROM-0505S
designator U?
DC/DC 5V 5V SIP4 1W; Manufacturer: Recom; Number of Outputs: 1; Efficiency: 78%; Output Current: 200mA; Min Input Voltage: 4.5V; Max Input Voltage: 5.5V; Isolation Voltage: 3kV; Isolation: Isolated; Supplier 1: RSComponents; Manufacturer Part Number: ROM-0505S; Stock 1: 0; Mount: PCB,Through Hole; Package: SIP4; Number of Pins: 4; Weight: 1g; Min Operating Temperature: -40°C; Max Operating Temperature: 85°C; Package Quantity: 42; Packaging: Rail/Tube; Output Voltage: 5V; Output Power: 1W; Nominal Output Voltage: 5V; Max Output Current: 200mA; Nominal Input Voltage: 5V; Min Input Voltage (DC): 4.5V; Max Input Voltage (DC): 5.5V; Voltage - Output 1: 5V; Current - Output 1: 200mA; Max Output Power: 1W; Max Power Dissipation: 1W; Max Output Voltage: 5V; Features: SCP; Length: 11.5mm; Height: 7.7mm; Width: 6.05mm; Depth: 11.5mm; REACH SVHC: No SVHC; Lead Free: Lead Free; ComponentLink1URL: https://www.recom-power.com/pdf/Econoline/ROM.pdf; ComponentLink1Description: https://www.recom-power.com/pdf/Econoline/ROM.pdf; ComponentLink2URL: http://www.farnell.com/datasheets/526465.pdf; ComponentLink2Description: http://www.farnell.com/datasheets/526465.pdf; ComponentLink3URL: https://www.alliedelec.com/m/d/5a3b2eeea3a261b423c33f62f44805e4.pdf; ComponentLink3Description: https://www.alliedelec.com/m/d/5a3b2eeea3a261b423c33f62f44805e4.pdf; ComponentLink4URL: https://www.distrelec.biz/Web/Downloads/tr/om/jtROM.pdf?mime=application%2Fpdf; ComponentLink4Description: https://www.distrelec.biz/Web/Downloads/tr/om/jtROM.pdf?mime=application%2Fpdf; ComponentLink5URL: http://www.produktinfo.conrad.com/datenblaetter/150000-174999/154777-da-01-en-DC_DC_WANDLER_ROM_0505S.pdf; ComponentLink5Description: http://www.produktinfo.conrad.com/datenblaetter/150000-174999/154777-da-01-en-DC_DC_WANDLER_ROM_0505S.pdf; Supplier Part Number 1: 494-3838P; Type: THT
footprint SIP4
pins: +Vin, +Vout, -Vin, -Vout

## ROX3SJ390R
designator R?, comment 390R, 3W
RES 390R 3W 5% AXIAL; Manufacturer: TE CONNECTIVITY / NEOHM; Manufacturer Part Number: ROX3SJ390R; Resistance: 390; Voltage Rating: 350; Resistor Case Style: Axial Leaded; Power Rating: 3; Product Range: ROX Series; Resistor Element Material: Metal Oxide; Temperature Coefficient: ± 350; SVHC: No SVHC (15-Jun-2015); External Length / Height: 5.5; External Width: 16; Lead Diameter: 0.7; Lead Length: 28; No. of Pins: 2; Overload Voltage: 600; Resistor Mounting: Through Hole<!--FANDB--><div class="features-and-benefits-container"></div>; Supplier 1: RS Components; RoHS: YES; Stock 1: 373; Pricing 1: 1=0.179, 50=0.126, 100=0.114, 250=0.097, 500=0.0932, 1000=0.066, 5000=0.0538, 10000=0.0455 (GBP); Resistance Tolerance: ± 5%; Automotive Qualification Standard: -; Operating Temperature Max: 235; Operating Temperature Min: -55; Operating Temperature Range: -55°C to +235; ComponentLink1URL: http://www.farnell.com/datasheets/1888337.pdf; ComponentLink1Description: Datasheet; Supplier Part Number 1: 214-2702P; Type: THT; Package: Axial
footprint RESAD2032W70L1600D550B
pins: 1, 2

## RP73D2A1K62BTG
designator R?, comment 1K62/0.1%
RES 1K62 0805 0.125W 0.1%; Manufacturer: TE Connectivity Holsworthy; Manufacturer Part Number: RP73D2A1K62BTG; Voltage Rating (DC): 150V; Number of Resistors: 1; Temperature Coefficient: 15ppm/°C; Resistance: 1.62kR; Power Rating: 125mW; Supplier 1: Farnell; Stock 1: 0; Pricing 1: 10=0.83600, 20=0.71700, 60=0.59700, 150=0.46500, 250=0.38000, 1250=0.32200, 2500=0.31500 (GBP); RoHS: Yes; Mount: Surface Mount; Case/Package: 0805; Number of Pins: 2; Case Code (Metric): 2012; Case Code (Imperial): 0805; Min Operating Temperature: -55°C; Max Operating Temperature: 155°C; Packaging: Cut Tape; Tolerance: 0.1%; Termination: Solder; Voltage Rating: 150V; Composition: Thin Film; Number of Terminations: 2; Radiation Hardening: No; REACH SVHC: Unknown; ELV: Compliant; ComponentLink1URL: https://datasheet.ciiva.com/7693/1635325-7693320.pdf?src-supplier=Element14; ComponentLink1Description: Datasheet; Supplier Part Number 1: 1502194RL; Type: SMD; Package: RESC2012X60N
footprint R0805
footprint RESC2012X05N (Chip Resistor, 2-Leads, Body 2.05x1.25mm, IPC Medium Density)
pins: 1, 2

## RP73D2A3K32BTG
designator R?, comment 3K32/0.1%
RES 3K32 0805 0.125W 0.1%; Manufacturer: TE Connectivity Holsworthy; Manufacturer Part Number: RP73D2A3K32BTG; Temperature Coefficient: 15ppm/°C; Resistance: 3.32kR; Power Rating: 125mW; Voltage Rating: 150V; Number of Resistors: 1; Supplier 1: Farnell; Stock 1: 0; Pricing 1: 1=1.23000, 10=0.97700, 25=0.91800, 50=0.85800, 100=0.74500, 250=0.67400, 1250=0.46800 (GBP); RoHS: Yes; Mount: Surface Mount; Case/Package: 0805; Number of Pins: 2; Weight: 0.000194oz; Case Code (Metric): 2012; Case Code (Imperial): 0805; Min Operating Temperature: -55°C; Max Operating Temperature: 155°C; Composition: Thin Film; Tolerance: 0.1%; Package Quantity: 250; Packaging: Cut Tape; Number of Terminations: 2; Termination: Solder; Voltage Rating (DC): 150V; Length: 2mm; Height: 0.55mm; Width: 1.25mm; Radiation Hardening: No; ELV: Compliant; REACH SVHC: No SVHC; ComponentLink1URL: https://datasheet.ciiva.com/7739/1635325-7739999.pdf?src-supplier=Element14; ComponentLink1Description: Datasheet; Supplier Part Number 1: 1502227; Type: SMD; Package: RESC2012X60N
footprint R0805
footprint RESC2012X05N (Chip Resistor, 2-Leads, Body 2.05x1.25mm, IPC Medium Density)
pins: 1, 2

## RP73D2A49K9BTG
designator R?, comment 49K9/0.1%
RES 49K9 0805 0.125W  0.1%; Manufacturer: TE Connectivity Holsworthy; Manufacturer Part Number: RP73D2A49K9BTG; Resistance: 49.9kR; Temperature Coefficient: 15ppm/°C; Power Rating: 125mW; Voltage Rating: 150V; Number of Resistors: 1; Supplier 1: Farnell; Stock 1: 0; Pricing 1: 10=0.77800, 25=0.75100, 50=0.70500, 100=0.64600, 250=0.47000, 1250=0.43000 (GBP); RoHS: Yes; Mount: Surface Mount; Case/Package: 0805; Number of Pins: 2; Weight: 0.000194oz; Case Code (Imperial): 0805; Case Code (Metric): 2012; Min Operating Temperature: -55°C; Max Operating Temperature: 155°C; Tolerance: 0.1%; Composition: Thin Film; Number of Terminations: 2; Package Quantity: 250; Packaging: Cut Tape; Termination: Solder; Voltage Rating (DC): 150V; Length: 2mm; Height: 0.55mm; Width: 1.25mm; Radiation Hardening: No; REACH SVHC: Unknown; ELV: Compliant; ComponentLink1URL: https://datasheet.ciiva.com/7740/436901-7740013.pdf?src-supplier=Element14; ComponentLink1Description: Datasheet; Supplier Part Number 1: 1502352RL; Type: SMD; Package: RESC2012X60N
footprint R0805
footprint RESC2012X05N (Chip Resistor, 2-Leads, Body 2.05x1.25mm, IPC Medium Density)
pins: 1, 2

## RP73PF2A12K7BTDF
designator R?, comment 12K7, 0.1%
RES 12K7 SMD 0805 0.1%; Manufacturer: TE Connectivity; Manufacturer Part Number: RP73PF2A12K7BTDF; Voltage Rating: 150V; Resistance: 12.7kR; Power Rating: 250mW; Temperature Coefficient: 25ppm/°C; Supplier 1: RSComponents; Stock 1: 1000; Pricing 1: 1000=0.146, 2000=0.136, 5000=0.127, 10000=0.116 (EUR); Case/Package: 0805; Case Code (Metric): 2012; Case Code (Imperial): 0805; Min Operating Temperature: -55°C; Max Operating Temperature: 155°C; Packaging: Cut Tape; Tolerance: 0.1%; Composition: Thin Film; Termination: Flat; Voltage Rating (DC): 150V; Length: 2mm; Height: 0.55mm; Depth: 1.25mm; REACH SVHC: No SVHC; ComponentLink1URL: http://www.farnell.com/datasheets/1635325.pdf; ComponentLink1Description: Datasheet; Supplier Part Number 1: 7630106; Type: SMD; Package: RESC2012X60N
footprint R0805
footprint RESC2012X05N (Chip Resistor, 2-Leads, Body 2.05x1.25mm, IPC Medium Density)
pins: 1, 2

## RT0805BRD0768KL
designator R?, comment 68K
RES 68K 0805 0.125W 0.1%; Manufacturer: Yageo; Manufacturer Part Number: RT0805BRD0768KL; Resistance: 68kR; Tolerance: 1%; Power Rating: 125mW; Voltage Rating: 150V; Temperature Coefficient: 25ppm/°C; Supplier 1: Mouser; RoHS: Yes; Stock 1: 6024; Pricing 1: 1 = 0.43000, 10 = 0.22400, 50 = 0.22400, 100 = 0.08300, 1000 = 0.06000, 10000 = 0.04400 (USD); Case/Package: 0805; Weight: 0.000194oz; Case Code (Metric): 2012; Case Code (Imperial): 0805; Contact Plating: Tin; Min Operating Temperature: -55°C; Max Operating Temperature: 125°C; Package Quantity: 5000; Packaging: Tape and Reel; Composition: Thin Film; Number of Terminations: 2; Termination: SMD/SMT; Military Standard: Not; Max Power Dissipation: 125mW; Voltage Rating (DC): 150V; Features: Moisture Resistant; Length: 2mm; Height: 0.024inch; Width: 0.049inch; Depth: 1.25mm; Radiation Hardening: No; Lead Free: Lead Free; ComponentLink1URL: https://datasheet.ciiva.com/46635/pyu-rt-1-to-0-05-rohs-l-5-46635237.pdf?src-supplier=Digi-Key; ComponentLink1Description: Datasheet; Supplier Part Number 1: 603-RT0805BRD0768KL; Type: SMD; Package: RESC2012X60N
footprint R0805
footprint RESC2012X05N (Chip Resistor, 2-Leads, Body 2.05x1.25mm, IPC Medium Density)
pins: 1, 2

## RT0805BRD07100KL
designator R?, comment 100K/0.1%
RES 100K 0805 0.125W 0.1%; Manufacturer: Yageo; Manufacturer Part Number: RT0805BRD07100KL; Resistance: 100kR; Power Rating: 125mW; Voltage Rating: 150V; Temperature Coefficient: 25ppm/°C; Supplier 1: Mouser; RoHS: Yes; Stock 1: 29047; Pricing 1: 1 = 0.40000, 10 = 0.28500, 50 = 0.28500, 100 = 0.11400, 1000 = 0.05200, 5000 = 0.04700, 10000 = 0.04500, 25000 = 0.04400, 50000 = 0.04300 (USD); Case/Package: 0805; Weight: 0.000194oz; Case Code (Metric): 2012; Case Code (Imperial): 0805; Min Operating Temperature: -55°C; Max Operating Temperature: 125°C; Tolerance: 0.1%; Packaging: Tape and Reel; Package Quantity: 5000; Composition: Thin Film; Number of Terminations: 2; Termination: SMD/SMT; Military Standard: Not; Max Power Dissipation: 125mW; Voltage Rating (DC): 150V; Features: Moisture Resistant; Length: 2mm; Height: 0.024inch; Width: 0.049inch; Depth: 1.25mm; Lead Free: Lead Free; ComponentLink1URL: https://datasheet.ciiva.com/5624/pyu-rt-1-to-0-05-rohs-l-4-5624091.pdf?src-supplier=Mouser; ComponentLink1Description: Datasheet; Supplier Part Number 1: 603-RT0805BRD07100KL; Type: SMD; Package: RESC2012X60N
footprint R0805
footprint RESC2012X05N (Chip Resistor, 2-Leads, Body 2.05x1.25mm, IPC Medium Density)
pins: 1, 2

## S20K300
designator RV?
VARISTOR 470V 8KA DISC 20MM; Manufacturer: EPCOS (TDK); Varistor Voltage (Min): 423V; Varistor Voltage (Max): 517V; Energy: 173J; Number of Circuits: 1; Maximum AC Volts: 300VAC; Maximum DC Volts: 385VDC; Capacitance @ Frequency: 780pF @ 1kHz; Supplier 1: Avnet Abacus; Manufacturer Part Number: S20K300; RoHS: RoHS Compliant; Category: Circuit Protection; Stock 1: 0; Pricing 1: 1=0.95, 10=0.827, 25=0.7328, 100=0.6383, 250=0.55556, 500=0.4728, 1000=0.37824, 2500=0.34278, 5000=0.31914 (USD); Packaging: Bulk; Part Status: Active; Varistor Voltage (Typ): 470V; Operating Temperature: -40°C ~ 85°C (TA); Mounting Type: Through Hole; Package: Disc 20mm; ComponentLink1URL: https://en.tdk.eu/inf/70/db/var_11/SIOV_Leaded_StandarD.pdf; ComponentLink1Description: Datasheet; Supplier Part Number 1: B72220S301K101; Type: THT
footprint S20K300
pins: 1, 2

## S681K29Y5PN63J5R
designator C?, comment 680pF/1kV
CAP 680PF 1KV Y5P RADIAL; Manufacturer: Vishay BCcomponents; Manufacturer Part Number: S681K29Y5PN63J5R; Catalog Drawings: JxR, KxR, LxR Side JxR_7.5 x 5; Tolerance: ±10%; Voltage - Rated: 1000V (1kV); Temperature Coefficient: Y5P (B); Online Catalog: S Series; Other Names: 1293PH; Type: THT; Supplier 1: Digi-Key; Stock 1: 21365; Pricing 1: 1=0.25, 10=0.168, 100=0.0851, 500=0.0582, 1000=0.0515, 2500=0.0493, 5000=0.0448 (USD); Standard Package: 1,000; Category: Capacitors; Family: Ceramic Capacitors; Series: S; Packaging: Bulk; Capacitance: 680pF; Mounting Type: Through Hole; Operating Temperature: -30°C ~ 85°C; Applications: General Purpose; Ratings: -; Package: Radial, Disc; Size / Dimension: 0.295" Dia (7.50mm); Height - Seated (Max): 0.453" (11.50mm); Thickness (Max): -; Lead Spacing: 0.197" (5.00mm); Features: -; Lead Style: Formed Leads - Kinked; ComponentLink1URL: https://datasheet.ciiva.com/160/geninfo-cd-rfi-safcaps-160773.pdf; ComponentLink1Description: Datasheet; Supplier Part Number 1: 1293PH-ND
footprint CAP_THT_5.08
pins: 1, 2 20

## Saraf
designator JG1
DRILL 4.5mm x 8mm; Note: Tab is connected to pin 3 (GND).; Published: 24-Aug-2001; LatestRevisionDate: 17-Jul-2002; LatestRevisionNote: Re-released for DXP Platform.; DatasheetVersion: Jan-1993; PackageVersion: Apr-1998; PackageReference: TO220VW; Publisher: Altium Limited; PackageDescription: TO, Thru-Hole, Vertical, Heatsink Mounted; 3 In-Line Leads; Pitch 2.54 mm; Pin sequence 1, 3, 2; ComponentLink1Description: Datasheet; ComponentLink1URL: http://www.st.com/; Type: THT
footprint DRILL4.5X8
pins: 1

## SBC_OUTLINE_ARM
designator U?  (no BOM)
footprint SBC_OUTLINE
text: SBC OUTLINE

## Schematic Title Block
designator STB, comment -  (value not drawn)  (graphical)
Schematic Title Block Template
text: Board; Version; Sheet; of; Designed by; Approved by; Date

## SD CARD
designator U?  (no BOM)
SD CARD 2GB LARGE CASE; .PCBChecked: BP; Category: Connectors; Package: SD METAL COVER SMD; Type: SMD; .SCHChecked: BP
footprint SD CARD
pins: 1 CS# "Chip select", 2 DIN, 3 GND, 4 3V3, 5 CLK, 6 GND, 7 DOUT, 8 CD "Card detect", 9 COM, 10 NC hidden "Pad NC", 11 NC hidden "Pad NC", 21 NC hidden "Pad NC", 22 G "Connected to ground", 23 NC hidden "Pad NC", 24 NC hidden "Pad NC", 25 DH hidden "Hole", 26 DH hidden "Hole"

## SDT5H100LP5-7
designator D?
DIODE SCHOTTKY 100V 5A; Manufacturer: Diodes; Type: SMD; Supplier 1: RSComponents; Manufacturer Part Number: SDT5H100LP5-7; RoHS: No; ComponentLink1URL: https://www.diodes.com/assets/Datasheets/SDT5H100LP5.pdf?src-supplier=Digi-Key; ComponentLink1Description: Datasheet; Supplier Part Number 1: 1333366P; Package: DIODE_POWERDI5
footprint DIODA_POWERDI5
pins: A, C

## Shent_THT
designator R?, comment 0R0005, 10W
SHENT 0R0005 10W THT; Manufacturer: *; Manufacturer Part Number: *; Supplier 1: *; Supplier Part Number 1: *; Type: THT
footprint PBV
pins: I1, I2, U1, U2

## SI4103DY-T1-GE3
designator Q?
MOSFET P-CH 30V 16A; Manufacturer: Vishay Siliconix; Continuous Drain Current: -16A; Drain to Source Voltage: -30V; Gate to Source Voltage: +/- 20V; Maximum Power Dissipation: 5.2W; Type: SMD; Supplier 1: Mouser; Manufacturer Part Number: SI4103DY-T1-GE3; RoHS: No; Stock 1: 5985; Pricing 1: 1 = 0.77000, 10 = 0.62400, 50 = 0.62400, 100 = 0.47300, 500 = 0.39100, 1000 = 0.31300, 2500 = 0.28300, 5000 = 0.26400, 10000 = 0.25400, 25000 = 0.24400 (USD); Supplier Part Number 1: 78-SI4103DY-T1-GE3; ComponentLink1Description: Datasheet; ComponentLink1URL: https://www.vishay.com/docs/75972/si4103dy.pdf; Case / Package: SO-8; Package: SOIC127P600X175-8N
footprint PMOS_SO8
pins: D, G, S

## SI4431CDY-T1-GE3
designator Q?
MOSFET P-CH 30V 7A; Manufacturer: Vishay; Rds On Max: 32mR; Input Capacitance: 1.006nF; Rise Time: 89ns; Max Power Dissipation: 4.2W; Gate to Source Voltage (Vgs): 20V; Fall Time: 11ns; Turn-Off Delay Time: 22ns; Number of Elements: 1; Power Dissipation: 2.5W; Turn-On Delay Time: 38ns; Threshold Voltage: -2.5V; Element Configuration: Single; Drain to Source Breakdown Voltage: -30V; Type: SMD; Supplier 1: Mouser; Manufacturer Part Number: SI4431CDY-T1-GE3; RoHS: Yes; Stock 1: 13239; Pricing 1: 1 = 0.79000, 10 = 0.63800, 50 = 0.63800, 100 = 0.63800, 1000 = 0.63800, 10000 = 0.63800 (USD); Mount: Surface Mount; Case/Package: SOIC; Number of Pins: 8; Weight: 0.006596oz; Contact Plating: Tin; Min Operating Temperature: -55°C; Max Operating Temperature: 150°C; Packaging: Tape and Reel; Package Quantity: 1; Drain to Source Voltage (Vdss): 30V; Continuous Drain Current (ID): 7A; Drain to Source Resistance: 32mR; Number of Channels: 1; On-State Resistance: 32MR; Length: 5mm; Height: 1.5mm; Width: 4mm; Radiation Hardening: No; REACH SVHC: Unknown; Lead Free: Lead Free; ComponentLink1URL: https://datasheet.ciiva.com/7710/si4431cd-7710176.pdf?src-supplier=Element14; ComponentLink1Description: Datasheet; Supplier Part Number 1: 781-SI4431CDY-T1-GE3; Package: SOIC127P600X175-8N
footprint PMOS_SO8
pins: D, G, S

## SI9933CDY-T1-GE3
designator Q?
MOSFET P-CH 20V 4A; Manufacturer: Vishay; Number of Elements: 2; Max Power Dissipation: 3.1W; Nominal Vgs: -1.4V; Input Capacitance: 665pF; Rise Time: 50ns; Rds On Max: 58mR; Gate to Source Voltage (Vgs): 12V; Fall Time: 13ns; Turn-Off Delay Time: 29ns; Drain to Source Voltage (Vdss): -20V; Turn-On Delay Time: 21ns; Power Dissipation: 2W; Element Configuration: Dual; Type: SMD; Supplier 1: Future Electronics; Manufacturer Part Number: SI9933CDY-T1-GE3; RoHS: Yes; Stock 1: 5000; Pricing 1: 2500 = 0.28500, 5000 = 0.23500, 7500 = 0.23000, 25000 = 0.22500 (USD); Mount: Surface Mount; Case/Package: SO; Number of Pins: 8; Weight: 0.006596oz; Contact Plating: Tin,Matte; Min Operating Temperature: -55°C; Max Operating Temperature: 150°C; Packaging: Tape and Reel; Package Quantity: 1; Continuous Drain Current (ID): 4A; Drain to Source Resistance: 58mR; Threshold Voltage: -1.4V; Number of Channels: 2; On-State Resistance: 58mR; Length: 5mm; Height: 1.55mm; Width: 4mm; Radiation Hardening: No; REACH SVHC: Unknown; Lead Free: Lead Free; ComponentLink1URL: https://www.vishay.com/docs/68791/si9933cd.pdf; ComponentLink1Description: Datasheet; Supplier Part Number 1: SI9933CDY-T1-GE3-REEL; Package: SOIC127P600X175-8N
footprint SI9933CDY_SO8
part A pins: D1, G1, S1
part B pins: D2, G2, S2

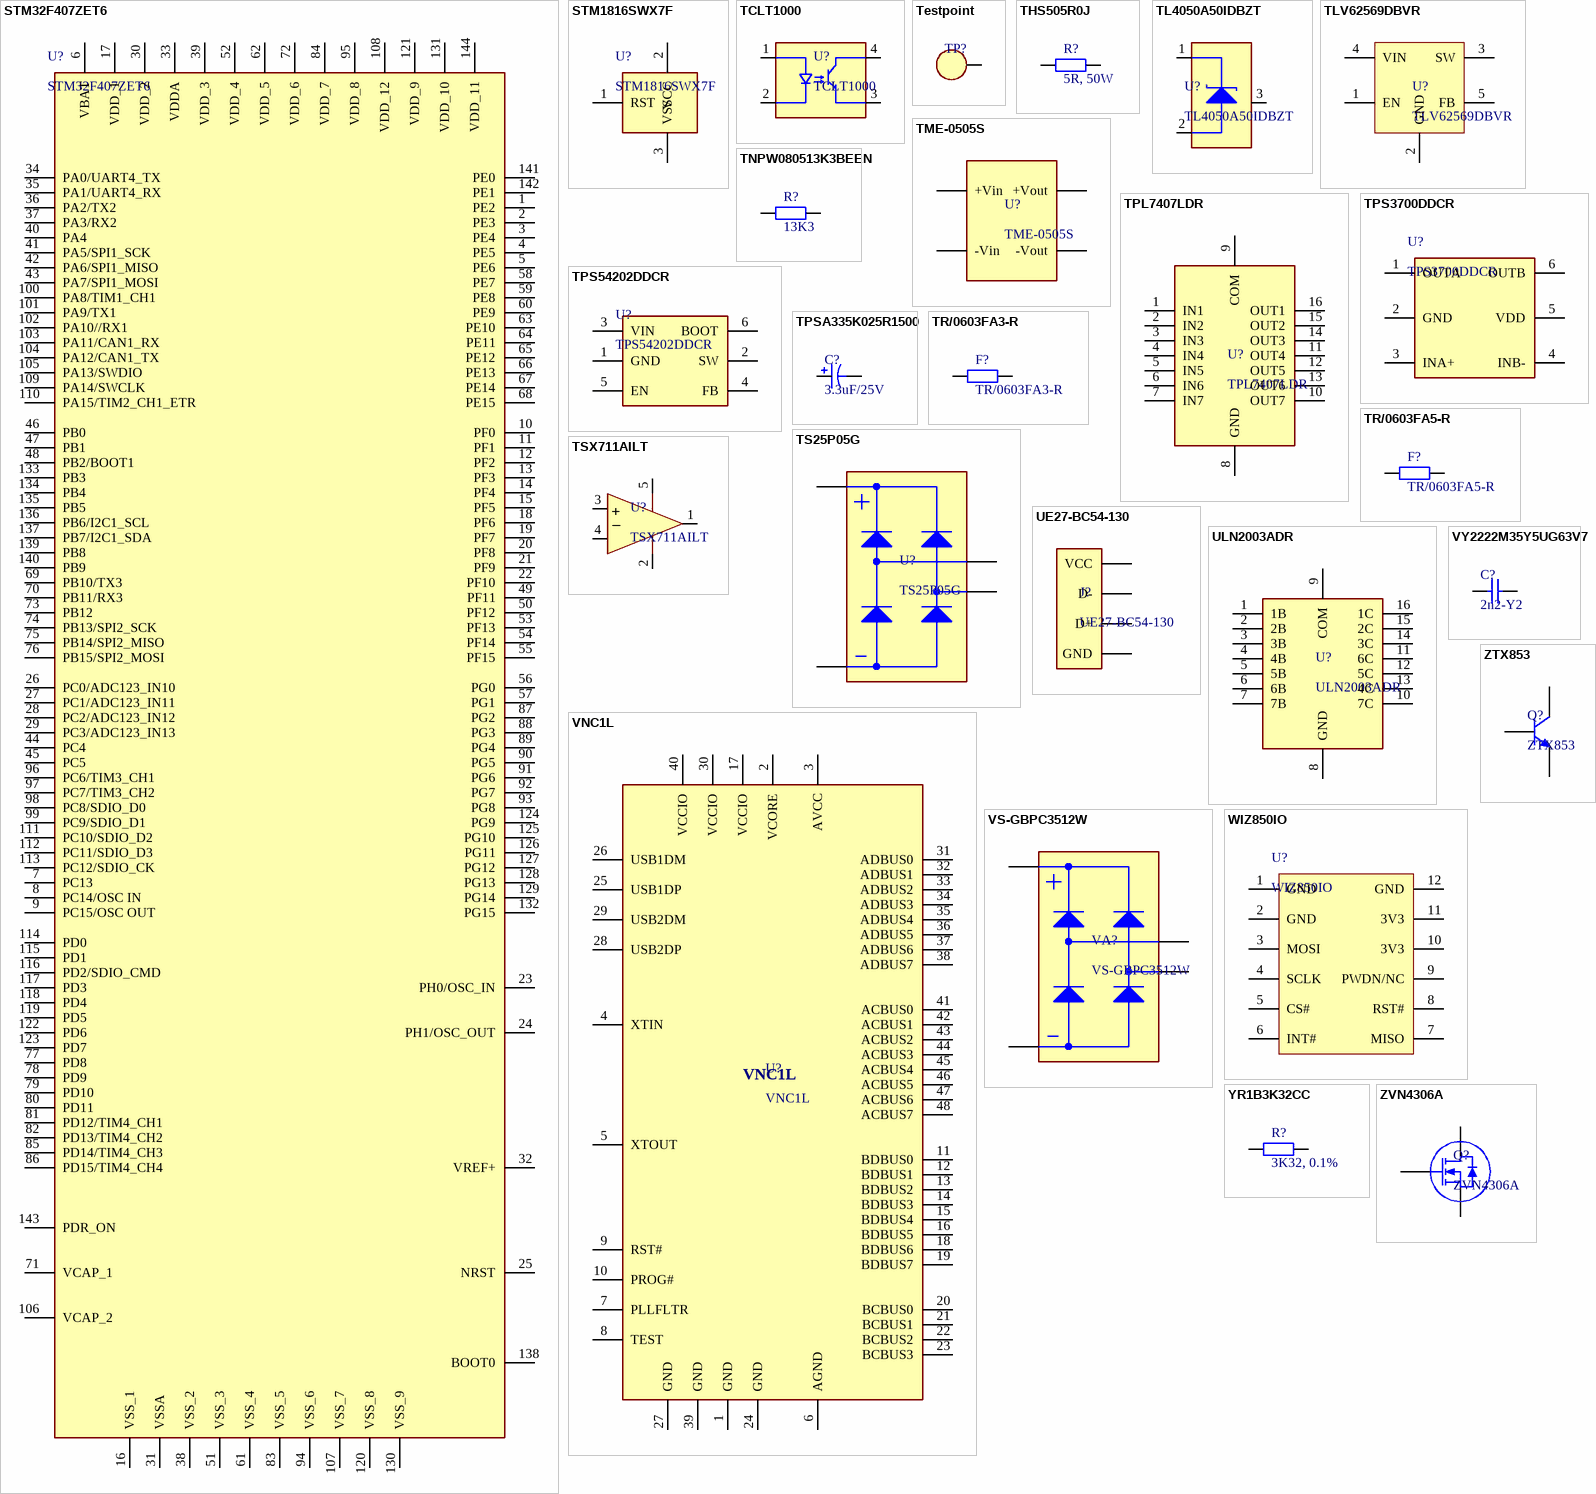
[diagram p8: symbols STM32F407ZET6 to ZVN4306A]